# Altium schematic symbol library CAD_Symbols.SchLib: 35 symbols
Pins are listed as number, name and electrical type; pins without a type are passive.

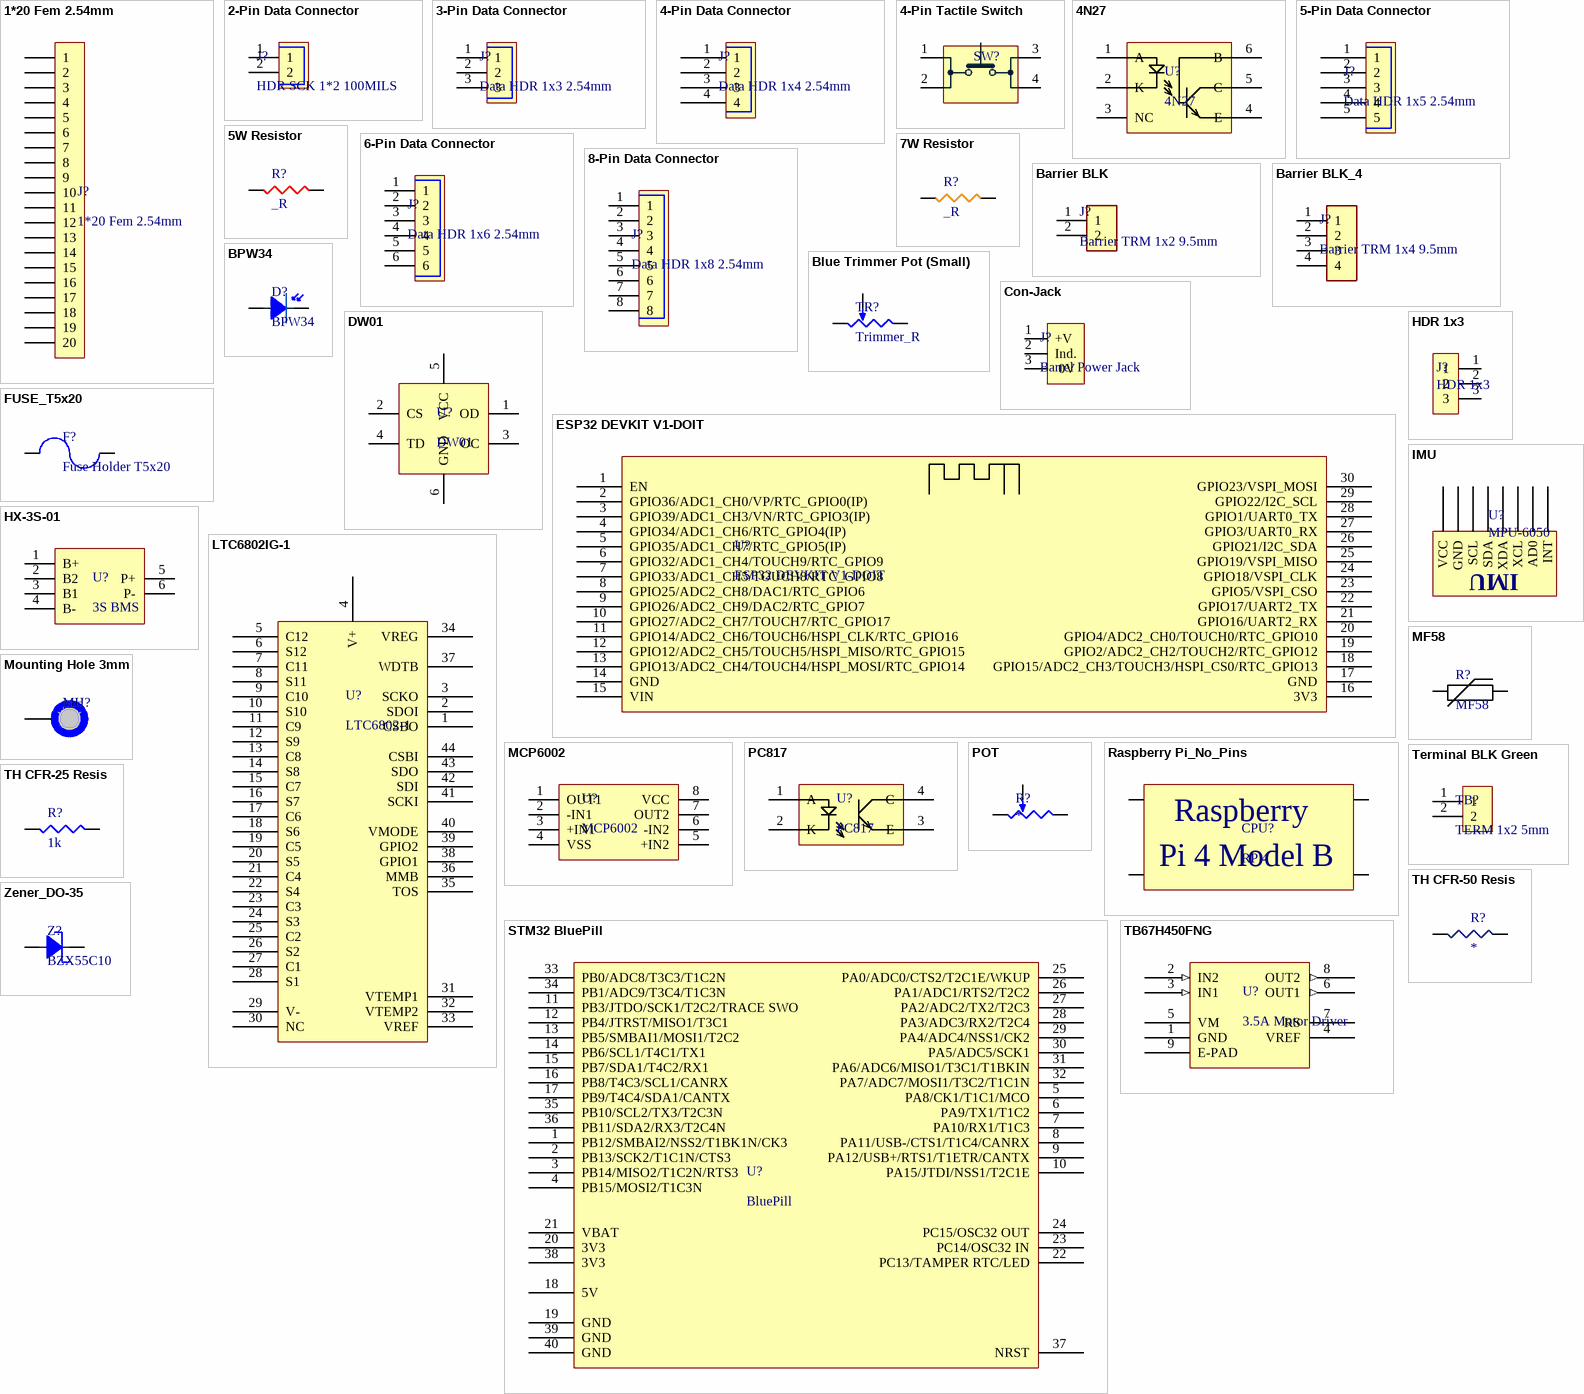
[diagram p0: symbols 1*20 Fem 2.54mm to Zener_DO-35]

## 1*20 Fem 2.54mm
designator J?
footprint 20*1 FEM 2.54mm
pins: 1, 2, 3, 4, 5, 6, 7, 8, 9, 10, 11, 12, 13, 14, 15, 16, 17, 18, 19, 20

## 2-Pin Data Connector
designator J?, comment HDR SCK 1*2 100MILS
Conn Shrouded Header HDR 2 POS 2.54mm Solder ST Thru-Hole; Manufacturer 1: TE Connectivity; Manufacturer Part Number 1: 2-644861-2; Underplate Material: Nickel; Number of Contacts: 2; Connector Type: Plug,Header,Pin; Voltage Rating: 250V; Mating Alignment: Yes (With); PCB Mount Retention: Without; PCB Mounting Orientation: Vertical; Gender: Male; Current Rating: 5A; Contact Resistance: 6mR; Contact Retention: No (Without); Connector System: Wire-to-Board; Contact Style: Straight; Contact Post Length: 3.56mm; Plating Thickness: 6.3um; PCB Thickness: 0.063inch; Approvals: CSA; Supplier 1: Digi-Key; Stock 1: 3206; Pricing 1: 1=0.41000, 10=0.39200, 100=0.27420, 500=0.23506, 1000=0.19588, 5000=0.16790, 10000=0.15670 (USD); RoHS: Yes; Mount: Through Hole; Housing Color: Black; Contact Plating: Tin,Matte; Contact Material: Copper Alloy; Housing Material: Polyester; Color: Black; Contact Shape: Square; Min Operating Temperature: -67°C; Max Operating Temperature: 221°C; Termination: Solder; Number of Rows: 1; Number of Positions: 2; Package Quantity: 500; Packaging: Bag; Contact Gender: Male; Orientation: Straight; Fastening Type: Friction; Max Voltage Rating (AC): 250V; Shrouded: Yes (With); Voltage Rating (AC): 250V; Mating Retention: Yes (With); PCB Mount Alignment: No (Without); Sealable: No (Without); Contact Current Rating: 5A; Strain Relief: No (Without); Backwall/Post Interruptions: No (Without); Length: 7.21mm; Height: 10.41mm; Pitch: 2.54mm; Contact Mating Length: 5.1mm; Depth: 7.95mm; Tail Length: 3.56mm; Radiation Hardening: No; Flammability Rating: UL94 V-0; ELV: Compliant; Lead Free: Lead Free; REACH SVHC: Unknown; ComponentLink1URL: https://datasheet.ciiva.com/16303/eng-ds-82056-mta-0608-16303634.pdf?src-supplier=Future+Electronics; ComponentLink1Description: https://datasheet.ciiva.com/16303/eng-ds-82056-mta-0608-16303634.pdf?src-supplier=Future+Electronics; ComponentLink2URL: https://datasheet.ciiva.com/30111/8852eng-ds-82056-mta-0608-30111398.pdf?src-supplier=Onlinecomponents.com; ComponentLink2Description: https://datasheet.ciiva.com/30111/8852eng-ds-82056-mta-0608-30111398.pdf?src-supplier=Onlinecomponents.com; ComponentLink3URL: https://datasheet.ciiva.com/709/eng-cd-644861-n-basefilename-709739.pdf?src-supplier=Digi-Key; ComponentLink3Description: https://datasheet.ciiva.com/709/eng-cd-644861-n-basefilename-709739.pdf?src-supplier=Digi-Key; ComponentLink4URL: https://datasheet.ciiva.com/3118/eng-ds-82056-mta-0608-3118126.pdf?src-supplier=Avnet; ComponentLink4Description: https://datasheet.ciiva.com/3118/eng-ds-82056-mta-0608-3118126.pdf?src-supplier=Avnet; Supplier Part Number 1: A30931-ND
footprint DHDR 1*2 2,54MM
pins: 1, 2

## 3-Pin Data Connector
designator J?, comment Data HDR 1x3 2.54mm
03P MTA100 SHRD HDR,W/O PEG SN; Manufacturer 1: TE Connectivity; Manufacturer Part Number 1: 2-644861-3; Underplate Material: Nickel; Number of Contacts: 3; Voltage Rating: 250V; Mating Alignment: Yes (With); PCB Mount Retention: Without; PCB Mounting Orientation: Vertical; Connector Type: Plug,Header,Pin; Contact Resistance: 6mR; Current Rating: 5A; Gender: Male; Connector System: Wire-to-Board; Contact Retention: No (Without); Contact Style: Straight; Contact Post Length: 3.56mm; Plating Thickness: 6.3um; PCB Thickness: 0.063inch; Approvals: CSA; Supplier 1: Digi-Key; Stock 1: 12064; Pricing 1: 1=0.51000, 10=0.48000, 100=0.36770, 500=0.31978, 1000=0.26382, 5000=0.23184, 10000=0.21585 (USD); RoHS: Yes; Mount: Through Hole; Color: Black; Contact Plating: Tin,Matte; Contact Material: Copper Alloy; Housing Material: Polyester; Housing Color: Black; Contact Shape: Square; Min Operating Temperature: -67°C; Max Operating Temperature: 221°C; Termination: Solder; Number of Rows: 1; Number of Positions: 3; Package Quantity: 500; Fastening Type: Friction; Packaging: Bag; Contact Gender: Male; Orientation: Straight; Max Voltage Rating (AC): 250V; Voltage Rating (AC): 250V; Shrouded: Yes (With); Mating Retention: Yes (With); PCB Mount Alignment: No (Without); Sealable: No (Without); Contact Current Rating: 5A; Backwall/Post Interruptions: No (Without); Strain Relief: No (Without); Length: 9.75mm; Height: 10.41mm; Pitch: 2.54mm; Contact Mating Length: 5.1mm; Depth: 7.95mm; Tail Length: 3.56mm; Radiation Hardening: No; Flammability Rating: UL94 V-0; ELV: Compliant; Lead Free: Lead Free; REACH SVHC: Unknown; ComponentLink1URL: https://datasheet.ciiva.com/709/eng-cd-644861-n-basefilename-709776.pdf?src-supplier=Digi-Key; ComponentLink1Description: https://datasheet.ciiva.com/709/eng-cd-644861-n-basefilename-709776.pdf?src-supplier=Digi-Key; ComponentLink2URL: https://datasheet.ciiva.com/19463/911331-19463444.pdf?src-supplier=Jameco; ComponentLink2Description: https://datasheet.ciiva.com/19463/911331-19463444.pdf?src-supplier=Jameco; ComponentLink3URL: https://datasheet.ciiva.com/30493/0900766b80f915a0-30493286.pdf?src-supplier=RSComponents; ComponentLink3Description: https://datasheet.ciiva.com/30493/0900766b80f915a0-30493286.pdf?src-supplier=RSComponents; ComponentLink4URL: https://datasheet.ciiva.com/16684/eng-ds-82056-mta-0608-16684920.pdf?src-supplier=Avnet+Europe; ComponentLink4Description: https://datasheet.ciiva.com/16684/eng-ds-82056-mta-0608-16684920.pdf?src-supplier=Avnet+Europe; ComponentLink5URL: https://datasheet.ciiva.com/30195/8852eng-ds-82056-mta-0608-30195592.pdf?src-supplier=Onlinecomponents.com; ComponentLink5Description: https://datasheet.ciiva.com/30195/8852eng-ds-82056-mta-0608-30195592.pdf?src-supplier=Onlinecomponents.com; ComponentLink6URL: https://datasheet.ciiva.com/16374/2-644861-3-16374442.pdf?src-supplier=Future+Electronics; ComponentLink6Description: https://datasheet.ciiva.com/16374/2-644861-3-16374442.pdf?src-supplier=Future+Electronics
footprint DHDR_1x3_2.54mm
pins: 1, 2, 3

## 4-Pin Data Connector
designator J?, comment Data HDR 1x4 2.54mm
MTA-100 Series, 2.54mm Pitch 4 Way 1 RowStraight PCB Header, Solder Term, 5A; Manufacturer 1: TE Connectivity; Manufacturer Part Number 1: 2-644861-4; Underplate Material: Nickel; Number of Contacts: 4; Connector Type: Plug,Header,Pin; Voltage Rating: 250V; Gender: Male; Shrouded: Yes (With); PCB Mount Retention: Without; PCB Mounting Orientation: Vertical; Contact Resistance: 6mR; Backwall/Post Interruptions: No (Without); Connector System: Wire-to-Board; Contact Post Length: 3.56mm; Plating Thickness: 6.35um; PCB Thickness: 0.063inch; Approvals: CSA; Supplier 1: Digi-Key; Stock 1: 18767; Pricing 1: 1=0.79000, 10=0.74100, 100=0.56790, 500=0.49380, 1000=0.40739, 5000=0.35801, 10000=0.33332 (USD); RoHS: Yes; Mount: Through Hole; Housing Color: Black; Color: Black; Contact Material: Copper Alloy; Contact Plating: Tin,Matte; Housing Material: Polyester; Contact Shape: Square; Min Operating Temperature: -67°C; Max Operating Temperature: 221°C; Termination: Solder; Number of Rows: 1; Contact Gender: Male; Number of Positions: 4; Package Quantity: 500; Packaging: Loose Piece; Current Rating: 5A; Voltage Rating (AC): 250V; Mating Alignment: Yes (With); Orientation: Straight; Fastening Type: Friction; Max Voltage Rating (AC): 250V; Contact Current Rating: 5A; Contact Retention: No (Without); Mating Retention: Yes (With); PCB Mount Alignment: No (Without); Sealable: No (Without); Strain Relief: No (Without); Contact Style: Straight; Length: 12.29mm; Height: 10.41mm; Pitch: 2.54mm; Contact Mating Length: 5.1mm; Depth: 7.95mm; Tail Length: 3.56mm; Radiation Hardening: No; Flammability Rating: UL94 V-0; ELV: Compliant; Lead Free: Lead Free; REACH SVHC: Unknown; ComponentLink1URL: https://datasheet.ciiva.com/7800/1651878-7800290.pdf?src-supplier=Element14; ComponentLink1Description: https://datasheet.ciiva.com/7800/1651878-7800290.pdf?src-supplier=Element14; ComponentLink2URL: https://datasheet.ciiva.com/15175/getdatasheetpartid-36841-15175492.pdf?src-supplier=Verical; ComponentLink2Description: https://datasheet.ciiva.com/15175/getdatasheetpartid-36841-15175492.pdf?src-supplier=Verical; ComponentLink3URL: https://datasheet.ciiva.com/11759/0900766b80f915a0-11759930.pdf?src-supplier=RSComponents; ComponentLink3Description: https://datasheet.ciiva.com/11759/0900766b80f915a0-11759930.pdf?src-supplier=RSComponents; ComponentLink4URL: https://datasheet.ciiva.com/714/eng-cd-644861-n-basefilename-714593.pdf?src-supplier=Digi-Key; ComponentLink4Description: https://datasheet.ciiva.com/714/eng-cd-644861-n-basefilename-714593.pdf?src-supplier=Digi-Key; ComponentLink5URL: https://datasheet.ciiva.com/16684/eng-ds-82056-mta-0608-16684709.pdf?src-supplier=Avnet+Europe; ComponentLink5Description: https://datasheet.ciiva.com/16684/eng-ds-82056-mta-0608-16684709.pdf?src-supplier=Avnet+Europe; ComponentLink6URL: https://datasheet.ciiva.com/16497/eng-ds-82056-mta-0608-16497871.pdf?src-supplier=Avnet+Asia; ComponentLink6Description: https://datasheet.ciiva.com/16497/eng-ds-82056-mta-0608-16497871.pdf?src-supplier=Avnet+Asia; Supplier Part Number 1: A30933-ND
footprint DHDR_1x4_2.54mm
pins: 1, 2, 3, 4

## 4-Pin Tactile Switch
designator SW?, comment 1825910-6  (value not drawn)
SWITCH TACTILE SPST-NO 0.05A 24V; Manufacturer 1: TE Connectivity Alcoswitch; Actuator Material: PBT; Mechanical Life: 100000Cycles; Operating Force: 160gf; Throw Configuration: SPST; Illumination Type: Non-Illuminated,Illuminated; Parameter Name 1: Loose Piece; Switch Travel: 0.25mm; Switch Function: Off-Mom; Contact Current Rating: 50mA; Actuator Type: Standard; Contact Resistance: 100mR; Actuator Length: 0.055inch; Supplier 1: Digi-Key; Manufacturer Part Number 1: 1825910-6; Stock 1: 115702; Pricing 1: 1=0.10000, 10=0.10100, 25=0.09560, 100=0.08700, 250=0.08180, 500=0.07484, 1000=0.06265, 5000=0.05743, 10000=0.05395 (USD); RoHS: Yes; Mount: Through Hole; Contact Material: Copper Alloy; Contact Plating: Silver; Min Operating Temperature: -35°C; Max Operating Temperature: 85°C; Termination: PC Pins; Package Quantity: 750; Orientation: Straight; Max Voltage Rating (DC): 24V; Electrical Life: 100000Cycles; Max Current Rating: 50mA; Type: Switch; Length: 5.99mm; REACH SVHC: Unknown; ELV: Compliant; Lead Free: Lead Free; ComponentLink1URL: https://datasheet.ciiva.com/30199/1825910-6rqpn1825910-6-30199520.pdf?src-supplier=Onlinecomponents.com; ComponentLink1Description: https://datasheet.ciiva.com/30199/1825910-6rqpn1825910-6-30199520.pdf?src-supplier=Onlinecomponents.com; ComponentLink2URL: https://datasheet.ciiva.com/15184/getdatasheetpartid-395915-15184509.pdf?src-supplier=Verical; ComponentLink2Description: https://datasheet.ciiva.com/15184/getdatasheetpartid-395915-15184509.pdf?src-supplier=Verical; Supplier Part Number 1: 450-1650-ND
footprint 4-Pin Tactile Switch
pins: 1, 2, 3, 4

## 4N27
designator U?
4N27 General Purpose Phototransistor Optocoupler
footprint DIP6
pins: 1 A, 2 K, 3 NC, 4 E, 5 C, 6 B

## 5-Pin Data Connector
designator J?, comment Data HDR 1x5 2.54mm
TE CONNECTIVITY / AMP         2-644861-5            Wire-To-Board Connector, MTA-100 Series, Through Hole, Header, 5 Contacts, 2.54 mm; Underplate Material: Nickel; Connector Type: Plug,Header,Pin; Number of Positions: 5; Gender: Male; Mating Alignment: Yes (With); PCB Mount Retention: Without; PCB Mounting Orientation: Vertical; Contact Resistance: 6mR; Max Voltage Rating (AC): 250V; Current Rating: 5A; Strain Relief: No (Without); Contact Style: Straight; Contact Post Length: 3.56mm; PCB Thickness: 0.063inch; Plating Thickness: 6.3um; Approvals: CSA; Supplier 1: Digi-Key; Manufacturer 1: TE Connectivity; Manufacturer Part Number 1: 2-644861-5; Stock 1: 995; Pricing 1: 1=0.88000, 10=0.77100, 100=0.66540, 500=0.54444, 1000=0.48395, 5000=0.42346, 10000=0.40229 (USD); RoHS: Yes; Mount: Through Hole; Housing Color: Black; Housing Material: Polyester; Contact Material: Copper Alloy; Contact Plating: Tin,Matte; Color: Black; Contact Shape: Square; Min Operating Temperature: -67°C; Max Operating Temperature: 221°C; Termination: Solder; Number of Contacts: 5; Number of Rows: 1; Package Quantity: 500; Packaging: Bag; Orientation: Straight; Contact Gender: Male; Fastening Type: Friction; Voltage Rating: 250V; Voltage Rating (AC): 250V; Shrouded: Yes (With); Contact Current Rating: 5A; Backwall/Post Interruptions: No (Without); Contact Retention: No (Without); Mating Retention: Yes (With); PCB Mount Alignment: No (Without); Connector System: Wire-to-Board; Sealable: No (Without); Length: 0.584inch; Height: 10.41mm; Pitch: 2.54mm; Contact Mating Length: 5.1mm; Depth: 7.95mm; Tail Length: 3.56mm; Radiation Hardening: No; Flammability Rating: UL94 V-0; ELV: Compliant; Lead Free: Lead Free; REACH SVHC: No SVHC; ComponentLink1URL: https://datasheet.ciiva.com/11759/0900766b80f915a1-11759928.pdf?src-supplier=RSComponents; ComponentLink1Description: https://datasheet.ciiva.com/11759/0900766b80f915a1-11759928.pdf?src-supplier=RSComponents; ComponentLink2URL: https://datasheet.ciiva.com/712/eng-cd-644861-n-basefilename-712852.pdf?src-supplier=Digi-Key; ComponentLink2Description: https://datasheet.ciiva.com/712/eng-cd-644861-n-basefilename-712852.pdf?src-supplier=Digi-Key; ComponentLink3URL: https://datasheet.ciiva.com/9478/eng-ds-82056-mta-0608-9478361.pdf?src-supplier=Avnet; ComponentLink3Description: https://datasheet.ciiva.com/9478/eng-ds-82056-mta-0608-9478361.pdf?src-supplier=Avnet; ComponentLink4URL: https://datasheet.ciiva.com/30161/8852eng-ds-82056-mta-0608-30161999.pdf?src-supplier=Onlinecomponents.com; ComponentLink4Description: https://datasheet.ciiva.com/30161/8852eng-ds-82056-mta-0608-30161999.pdf?src-supplier=Onlinecomponents.com; Supplier Part Number 1: A30934-ND
footprint DHDR_1x5_2.54mm
pins: 1, 2, 3, 4, 5

## 5W Resistor
designator R?, comment _R
footprint 5WATT_RESISTOR
pins: 1, 2

## 6-Pin Data Connector
designator J?, comment Data HDR 1x6 2.54mm
CONN HEADER VERT 6POS .100 TIN; Manufacturer 1: TE Connectivity; Manufacturer Part Number 1: 2-644861-6; Underplate Material: Nickel; Number of Contacts: 6; Connector Type: Plug,Header,Pin; Contact Resistance: 6mR; Mating Alignment: Yes (With); PCB Mount Retention: Without; PCB Mounting Orientation: Vertical; Parameter Name 1: Box; Voltage Rating: 250V; Current Rating: 5A; Backwall/Post Interruptions: No (Without); Connector System: Wire-to-Board; Plating Thickness: 6.3um; Contact Style: Straight; Contact Post Length: 3.56mm; PCB Thickness: 0.063inch; Approvals: CSA; Supplier 1: Digi-Key; Stock 1: 208; Pricing 1: 1=1.04000, 10=0.91900, 100=0.79250, 500=0.64840, 1000=0.57635, 5000=0.50431, 10000=0.47909 (USD); RoHS: Yes; Mount: Through Hole; Housing Material: Polyester; Contact Plating: Tin,Matte; Contact Material: Copper Alloy; Contact Shape: Square; Color: Black; Housing Color: Black; Min Operating Temperature: -67°C; Max Operating Temperature: 221°C; Number of Rows: 1; Termination: Solder; Contact Gender: Male; Package Quantity: 1000; Max Voltage Rating (AC): 250V; Fastening Type: Friction; Orientation: Straight; Number of Positions: 6; Contact Retention: No (Without); Mating Retention: Yes (With); PCB Mount Alignment: No (Without); Sealable: No (Without); Strain Relief: No (Without); Contact Current Rating: 5A; Length: 0.684inch; Height: 10.41mm; Pitch: 2.54mm; Contact Mating Length: 5.1mm; Depth: 7.95mm; Tail Length: 3.56mm; Radiation Hardening: No; Flammability Rating: UL94 V-0; REACH SVHC: Unknown; ComponentLink1URL: https://datasheet.ciiva.com/30493/0900766b80f915a1-30493314.pdf?src-supplier=RSComponents; ComponentLink1Description: https://datasheet.ciiva.com/30493/0900766b80f915a1-30493314.pdf?src-supplier=RSComponents; ComponentLink2URL: https://datasheet.ciiva.com/16303/2-644861-6-16303636.pdf?src-supplier=Future+Electronics; ComponentLink2Description: https://datasheet.ciiva.com/16303/2-644861-6-16303636.pdf?src-supplier=Future+Electronics; ComponentLink3URL: https://datasheet.ciiva.com/16684/eng-ds-82056-mta-0608-16684438.pdf?src-supplier=Avnet+Europe; ComponentLink3Description: https://datasheet.ciiva.com/16684/eng-ds-82056-mta-0608-16684438.pdf?src-supplier=Avnet+Europe; ComponentLink4URL: https://datasheet.ciiva.com/15175/getdatasheetpartid-36761-15175467.pdf?src-supplier=Verical; ComponentLink4Description: https://datasheet.ciiva.com/15175/getdatasheetpartid-36761-15175467.pdf?src-supplier=Verical; ComponentLink5URL: https://datasheet.ciiva.com/714/eng-cd-644861-n-basefilename-714750.pdf?src-supplier=Digi-Key; ComponentLink5Description: https://datasheet.ciiva.com/714/eng-cd-644861-n-basefilename-714750.pdf?src-supplier=Digi-Key; ComponentLink6URL: https://datasheet.ciiva.com/30135/8852eng-ds-82056-mta-0608-30135278.pdf?src-supplier=Onlinecomponents.com; ComponentLink6Description: https://datasheet.ciiva.com/30135/8852eng-ds-82056-mta-0608-30135278.pdf?src-supplier=Onlinecomponents.com; ComponentLink7URL: https://datasheet.ciiva.com/3118/eng-ds-82056-mta-0608-3118127.pdf?src-supplier=Avnet; ComponentLink7Description: https://datasheet.ciiva.com/3118/eng-ds-82056-mta-0608-3118127.pdf?src-supplier=Avnet; Supplier Part Number 1: A30935-ND
footprint DHDR_1x6_2.54mm
pins: 1, 2, 3, 4, 5, 6

## 7W Resistor
designator R?, comment _R
footprint 7WATT_RESISTOR
pins: 1, 2

## 8-Pin Data Connector
designator J?, comment Data HDR 1x8 2.54mm
CONN HEADER VERT 8POS .100 TIN; Manufacturer 1: TE Connectivity; Manufacturer Part Number 1: 2-644861-8; Underplate Material: Nickel; Number of Contacts: 8; Connector Type: Plug,Header,Pin; Mating Alignment: Yes (With); PCB Mount Retention: Without; PCB Mounting Orientation: Vertical; Contact Resistance: 6mR; Max Voltage Rating (AC): 250V; Current Rating: 5A; Gender: Male; Backwall/Post Interruptions: No (Without); Connector System: Wire-to-Board; Contact Style: Straight; Contact Post Length: 3.56mm; Plating Thickness: 6.3um; PCB Thickness: 0.063inch; Approvals: CSA; Supplier 1: Digi-Key; Stock 1: 1996; Pricing 1: 1=0.62000, 10=0.58100, 100=0.44530, 500=0.38726, 1000=0.31949, 5000=0.28076, 10000=0.26140 (USD); RoHS: Yes; Mount: Through Hole; Housing Material: Polyester; Contact Shape: Square; Contact Plating: Tin,Matte; Contact Material: Copper Alloy; Color: Black; Housing Color: Black; Min Operating Temperature: -67°C; Max Operating Temperature: 221°C; Termination: Solder; Number of Rows: 1; Number of Positions: 8; Packaging: Bulk; Contact Gender: Male; Package Quantity: 1000; Voltage Rating: 250V; Fastening Type: Friction; Orientation: Straight; Contact Retention: No (Without); Mating Retention: Yes (With); PCB Mount Alignment: No (Without); Sealable: No (Without); Strain Relief: No (Without); Contact Current Rating: 5A; Length: 22.45mm; Height: 10.41mm; Pitch: 2.54mm; Contact Mating Length: 5.1mm; Depth: 7.95mm; Tail Length: 3.56mm; Radiation Hardening: No; Flammability Rating: UL94 V-0; REACH SVHC: Unknown; ComponentLink1URL: https://datasheet.ciiva.com/16303/2-644861-8-16303640.pdf?src-supplier=Future+Electronics; ComponentLink1Description: https://datasheet.ciiva.com/16303/2-644861-8-16303640.pdf?src-supplier=Future+Electronics; ComponentLink2URL: https://datasheet.ciiva.com/11745/0900766b81026688-11745886.pdf?src-supplier=RSComponents; ComponentLink2Description: https://datasheet.ciiva.com/11745/0900766b81026688-11745886.pdf?src-supplier=RSComponents; ComponentLink3URL: https://datasheet.ciiva.com/709/eng-cd-644861-n-basefilename-709773.pdf?src-supplier=Digi-Key; ComponentLink3Description: https://datasheet.ciiva.com/709/eng-cd-644861-n-basefilename-709773.pdf?src-supplier=Digi-Key; ComponentLink4URL: https://datasheet.ciiva.com/9478/eng-ds-82056-mta-0608-9478367.pdf?src-supplier=Avnet; ComponentLink4Description: https://datasheet.ciiva.com/9478/eng-ds-82056-mta-0608-9478367.pdf?src-supplier=Avnet; ComponentLink5URL: https://datasheet.ciiva.com/16684/eng-ds-82056-mta-0608-16684159.pdf?src-supplier=Avnet+Europe; ComponentLink5Description: https://datasheet.ciiva.com/16684/eng-ds-82056-mta-0608-16684159.pdf?src-supplier=Avnet+Europe; Supplier Part Number 1: A30937-ND
footprint DHDR_1x8_2.54mm
pins: 1, 2, 3, 4, 5, 6, 7, 8

## Barrier BLK
designator J?, comment Barrier TRM 1x2 9.5mm
CONN BARRIER STRIP 2CIRC 0.374"; Manufacturer 1: On-Shore Technology; Manufacturer Part Number 1: OSTYK44102030; Current Rating: 30A; Voltage Rating: 300V; Parameter Name 1: Bulk; Number of Circuits: 2; Wire Gauge (Max): 22AWG; Wire Gauge (Min): 10AWG; Pitch: 0.374inch; Supplier 1: Digi-Key; Stock 1: 3505; Pricing 1: 1=1.22000, 10=0.76100, 25=0.65160, 50=0.58560, 100=0.57340, 250=0.48800, 500=0.46360, 1000=0.41480, 5000=0.32452 (USD); RoHS: Yes; Mount: Through Hole; Color: Black; Insulation Material: Nylon; Min Operating Temperature: -40°C; Max Operating Temperature: 105°C; Number of Rows: 1; Number of Wire Entries: 2; Flammability Rating: UL94 V-0; ComponentLink1URL: https://datasheet.ciiva.com/778/ostyk441xx030-778584.pdf?src-supplier=Digi-Key; ComponentLink1Description: https://datasheet.ciiva.com/778/ostyk441xx030-778584.pdf?src-supplier=Digi-Key; Supplier Part Number 1: ED2971-ND
footprint BARRIER_9.5MM
pins: 1, 2

## Barrier BLK_4
designator J?, comment Barrier TRM 1x4 9.5mm
CONN BARRIER STRIP 4CIRC 0.374"; Manufacturer 1: On-Shore Technology; Manufacturer Part Number 1: OSTYK44102030; Current Rating: 30A; Voltage Rating: 300V; Parameter Name 1: Bulk; Number of Circuits: 2; Wire Gauge (Max): 22AWG; Wire Gauge (Min): 10AWG; Pitch: 0.374inch; Supplier 1: Digi-Key; Stock 1: 3505; Pricing 1: 1=1.22000, 10=0.76100, 25=0.65160, 50=0.58560, 100=0.57340, 250=0.48800, 500=0.46360, 1000=0.41480, 5000=0.32452 (USD); RoHS: Yes; Mount: Through Hole; Color: Black; Insulation Material: Nylon; Min Operating Temperature: -40°C; Max Operating Temperature: 105°C; Number of Rows: 1; Number of Wire Entries: 2; Flammability Rating: UL94 V-0; ComponentLink1URL: https://datasheet.ciiva.com/778/ostyk441xx030-778584.pdf?src-supplier=Digi-Key; ComponentLink1Description: https://datasheet.ciiva.com/778/ostyk441xx030-778584.pdf?src-supplier=Digi-Key; Supplier Part Number 1: ED2971-ND
footprint BARRIER_4_9.5mm
pins: 1, 2, 3, 4

## Blue Trimmer Pot (Small)
designator TR?, comment Trimmer_R
footprint 3296W_TRIMMER
pins: 1, 2, 3

## BPW34
designator D?
PIN photodiode with high speed and high / radiant sensitivity in miniature, flat, top view, clear plastic / package. It is sensitive to visible and near infrared radiation. / BPW34S is packed in tubes, specifications like BPW34.
footprint BPW34
pins: A Anode, K Cathode

## Con-Jack
designator J?, comment Barrel Power Jack
DC-Power Socket 12V 5A 2, 1mm Solder Eyel; Manufacturer 1: Cliff; Manufacturer Part Number 1: FC68148; Parameter Name 1: Bulk; Inside Diameter: 6.3mm; Supplier 1: Conrad; RoHS: Yes; Weight: 0.1lb; Current Rating: 5A; Orientation: Right Angle; Connector Type: Socket; Length: 5inch; Height: 0.25inch; Width: 3inch; ComponentLink1URL: http://www.farnell.com/datasheets/317160.pdf?src-supplier=Farnell; ComponentLink1Description: http://www.farnell.com/datasheets/317160.pdf?src-supplier=Farnell; ComponentLink2URL: http://www.rapidonline.com/pdf/735742_da_en_01.pdf?src-supplier=Rapid+Electronics; ComponentLink2Description: http://www.rapidonline.com/pdf/735742_da_en_01.pdf?src-supplier=Rapid+Electronics; ComponentLink3URL: http://www.produktinfo.conrad.com/datenblaetter/725000-749999/735742-da-01-en-DC_BUCHSE_2_1MM_FC68148.pdf?src-supplier=Conrad; ComponentLink3Description: http://www.produktinfo.conrad.com/datenblaetter/725000-749999/735742-da-01-en-DC_BUCHSE_2_1MM_FC68148.pdf?src-supplier=Conrad; Supplier Part Number 1: 735742
footprint pwr_Jack
pins: 1 +V, 2 Ind., 3  0V

## DW01
designator U?
One Cell Lithium-ion/Polymer Battery Protection IC
footprint SOT23-6
pins: 1 OD, 2 CS, 3 OC, 4 TD, 5 VCC, 6 GND

## ESP32 DEVKIT V1-DOIT
designator U?
footprint ESP32 DEVKIT V1-DOIT
pins: 1 EN, 2 GPIO36/ADC1_CH0/VP/RTC_GPIO0(IP), 3 GPIO39/ADC1_CH3/VN/RTC_GPIO3(IP), 4 GPIO34/ADC1_CH6/RTC_GPIO4(IP), 5 GPIO35/ADC1_CH7/RTC_GPIO5(IP), 6 GPIO32/ADC1_CH4/TOUCH9/RTC_GPIO9, 7 GPIO33/ADC1_CH5/TOUCH8/RTC_GPIO8, 8 GPIO25/ADC2_CH8/DAC1/RTC_GPIO6, 9 GPIO26/ADC2_CH9/DAC2/RTC_GPIO7, 10 GPIO27/ADC2_CH7/TOUCH7/RTC_GPIO17, 11 GPIO14/ADC2_CH6/TOUCH6/HSPI_CLK/RTC_GPIO16, 12 GPIO12/ADC2_CH5/TOUCH5/HSPI_MISO/RTC_GPIO15, 13 GPIO13/ADC2_CH4/TOUCH4/HSPI_MOSI/RTC_GPIO14, 14 GND, 15 VIN, 16 3V3, 17 GND, 18 GPIO15/ADC2_CH3/TOUCH3/HSPI_CS0/RTC_GPIO13, 19 GPIO2/ADC2_CH2/TOUCH2/RTC_GPIO12, 20 GPIO4/ADC2_CH0/TOUCH0/RTC_GPIO10, 21 GPIO16/UART2_RX, 22 GPIO17/UART2_TX, 23 GPIO5/VSPI_CSO, 24 GPIO18/VSPI_CLK, 25 GPIO19/VSPI_MISO, 26 GPIO21/I2C_SDA, 27 GPIO3/UART0_RX, 28 GPIO1/UART0_TX, 29 GPIO22/I2C_SCL, 30 GPIO23/VSPI_MOSI

## FUSE_T5x20
designator F?, comment Fuse Holder T5x20
footprint FUSE
pins: 1, 2

## HDR 1x3
designator J?
1x3 Male Header 2.54 mm pitch
footprint HDR 1x3 2.54mm
pins: 1, 2, 3

## HX-3S-01
designator U?, comment 3S BMS
Lithium Battery Charger Protection Module (BMS) 3S 10A 12V
footprint HX-3S-01
pins: 1 B+, 2 B2, 3 B1, 4 B-, 5 P+, 6 P-

## IMU
designator U?, comment MPU-6050
footprint IMU
pins: AD0, GND, INT, SCL, SDA, VCC, XCL, XDA

## LTC6802IG-1
designator U?, comment LTC6802-1
Battery Stack Monitor Li-Ion Automotive 44-Pin SSOP Tube; Manufacturer: Analog Devices / Linear Technology; Manufacturer Part Number: LTC6802IG-1#PBF; Supplier 1: Arrow Electronics; RoHS: Yes; Category: Battery Management; Stock 1: 59; Pricing 1: 1=20.44 (USD); ComponentLink1URL: https://datasheet.ciiva.com/25627/0900766b810edb72-25627720.pdf?src-supplier=Rs; ComponentLink1Description: https://datasheet.ciiva.com/25627/0900766b810edb72-25627720.pdf?src-supplier=Rs; ComponentLink2URL: https://datasheet.ciiva.com/1137/1714134-1137505.pdf?src-supplier=Element14; ComponentLink2Description: https://datasheet.ciiva.com/1137/1714134-1137505.pdf?src-supplier=Element14; ComponentLink3URL: https://datasheet.ciiva.com/1932/26880-1932133.pdf?src-supplier=Digikey; ComponentLink3Description: https://datasheet.ciiva.com/1932/26880-1932133.pdf?src-supplier=Digikey; ComponentLink4URL: https://datasheet.ciiva.com/15114/getdatasheetpartid-365066-15114664.pdf?src-supplier=Verical; ComponentLink4Description: https://datasheet.ciiva.com/15114/getdatasheetpartid-365066-15114664.pdf?src-supplier=Verical; ComponentLink5URL: https://datasheet.ciiva.com/1140/1714134-1140082.pdf?src-supplier=Farnell; ComponentLink5Description: https://datasheet.ciiva.com/1140/1714134-1140082.pdf?src-supplier=Farnell; Supplier Part Number 1: LTC6802IG-1#PBF
footprint TSSOP44
pins: 1 CSBO, 2 SDOI, 3 SCKO, 4 V+, 5 C12, 6 S12, 7 C11, 8 S11, 9 C10, 10 S10, 11 C9, 12 S9, 13 C8, 14 S8, 15 C7, 16 S7, 17 C6, 18 S6, 19 C5, 20 S5, 21 C4, 22 S4, 23 C3, 24 S3, 25 C2, 26 S2, 27 C1, 28 S1, 29 V-, 30 NC, 31 VTEMP1, 32 VTEMP2, 33 VREF, 34 VREG, 35 TOS, 36 MMB, 37 WDTB, 38 GPIO1, 39 GPIO2, 40 VMODE, 41 SCKI, 42 SDI, 43 SDO, 44 CSBI

## MCP6002
designator U?
Dual General Purpose Rail-to-Rail Op-Amp, 1.8~6V Operating Range
footprint DIP8
pins: 1 OUT1, 2 -IN1, 3 +IN1, 4 VSS, 5 +IN2, 6 -IN2, 7 OUT2, 8 VCC

## MF58
designator R?
NTC 100K THERMISTOR MF58
footprint NTC 3mm
pins: 1, 2

## Mounting Hole 3mm
designator MH?, comment MH_7.4MMC_3.2MMD  (value not drawn)  (no BOM)
Mounting Hole, 7.4mm diameter, 3.2mm drill.
footprint MH_7.4MMC_3.2MMD
pins: 1

## PC817
designator U?
PC817 Photocoupler
footprint DIP4
pins: 1 A, 2 K, 3 E, 4 C

## POT
designator R?
footprint POT
footprint POT 3386P
pins: 1, 2, 3

## Raspberry Pi_No_Pins
designator CPU?, comment RP 4
footprint RP4-B
pins: 1, 2, 3, 4
text: Raspberry; Pi 4 Model B

## STM32 BluePill
designator U?, comment BluePill
footprint BluePill (STM32_BluePill)
pins: 1 PB12/SMBAI2/NSS2/T1BK1N/CK3, 2 PB13/SCK2/T1C1N/CTS3, 3 PB14/MISO2/T1C2N/RTS3, 4 PB15/MOSI2/T1C3N, 5 PA8/CK1/T1C1/MCO, 6 PA9/TX1/T1C2, 7 PA10/RX1/T1C3, 8 PA11/USB-/CTS1/T1C4/CANRX, 9 PA12/USB+/RTS1/T1ETR/CANTX, 10 PA15/JTDI/NSS1/T2C1E, 11 PB3/JTDO/SCK1/T2C2/TRACE SWO, 12 PB4/JTRST/MISO1/T3C1, 13 PB5/SMBAI1/MOSI1/T2C2, 14 PB6/SCL1/T4C1/TX1, 15 PB7/SDA1/T4C2/RX1, 16 PB8/T4C3/SCL1/CANRX, 17 PB9/T4C4/SDA1/CANTX, 18 5V, 19 GND, 20 3V3, 21 VBAT, 22 PC13/TAMPER RTC/LED, 23 PC14/OSC32 IN, 24 PC15/OSC32 OUT, 25 PA0/ADC0/CTS2/T2C1E/WKUP, 26 PA1/ADC1/RTS2/T2C2, 27 PA2/ADC2/TX2/T2C3, 28 PA3/ADC3/RX2/T2C4, 29 PA4/ADC4/NSS1/CK2, 30 PA5/ADC5/SCK1, 31 PA6/ADC6/MISO1/T3C1/T1BKIN, 32 PA7/ADC7/MOSI1/T3C2/T1C1N, 33 PB0/ADC8/T3C3/T1C2N, 34 PB1/ADC9/T3C4/T1C3N, 35 PB10/SCL2/TX3/T2C3N, 36 PB11/SDA2/RX3/T2C4N, 37 NRST, 38 3V3, 39 GND, 40 GND

## TB67H450FNG
designator U?, comment 3.5A Motor Driver
footprint HSOP8
pins: 1 GND (power), 2 IN2 (in), 3 IN1 (in), 4 VREF, 5 VM (power), 6 OUT1 (out), 7 RS, 8 OUT2 (out), 9 E-PAD (power)

## Terminal BLK Green
designator TB?, comment TERM 1x2 5mm
PHOENIX CONTACT         MKDSN 1,5/ 2             Wire-To-Board Terminal Block, 5 mm, 2 Ways, 26 AWG, 16 AWG, 1.5 mm, Screw; Manufacturer Part Number 1: 1729018; Parameter Name 1: Bulk; Number of Positions: 2; Current Rating: 13.5A; Number of Levels: 1; Current: 10A; Gender: Male; Voltage Rating: 400V; Voltage: 300V; Max Supply Voltage: 250V; Wire Gauge (Max): 26AWG; Stripping Length: 6mm; Approvals: UL,CSA,cULus,CB; Supplier 1: Mouser; Manufacturer 1: Phoenix Contact; Stock 1: 6371; Pricing 1: 1=1.10000, 10=1.05000, 50=1.01000, 100=0.97400, 250=0.91000, 500=0.83800 (USD); RoHS: Yes; Mount: Through Hole; Number of Pins: 2; Weight: 0.06949oz; Color: Green; Material: Polyamide; Housing Material: Polyamide; Housing Color: Green; Contact Material: Tin; Insulation Material: Nylon; Package Quantity: 50; Termination: Screw; Number of Positions Per Level: 2; Number of Contacts: 2; Number of Circuits: 2; Connector Type: Screw; Orientation: Straight; Number of Rows: 1; Max Current Rating: 13.5A; Number of Poles: 2; Length: 8.1mm; Height: 13.5mm; Pitch: 5mm; Wire Gauge (Min): 26AWG; Depth: 8.1mm; Width: 13.5mm; Wire/Cable Gauge: 26AWG; Radiation Hardening: No; REACH SVHC: Unknown; Flammability Rating: UL94 V-0; Lead Free: Lead Free; ComponentLink1URL: https://datasheet.ciiva.com/16071/1729018-16071814.pdf?src-supplier=Onlinecomponents.com; ComponentLink1Description: https://datasheet.ciiva.com/16071/1729018-16071814.pdf?src-supplier=Onlinecomponents.com; ComponentLink2URL: https://datasheet.ciiva.com/832/1729018-832055.pdf?src-supplier=Digi-Key; ComponentLink2Description: https://datasheet.ciiva.com/832/1729018-832055.pdf?src-supplier=Digi-Key; ComponentLink3URL: https://datasheet.ciiva.com/15169/getdatasheetpartid-177860-15169643.pdf?src-supplier=Verical; ComponentLink3Description: https://datasheet.ciiva.com/15169/getdatasheetpartid-177860-15169643.pdf?src-supplier=Verical; ComponentLink4URL: https://datasheet.ciiva.com/14607/70054375-14607356.pdf?src-supplier=Allied+Electronics; ComponentLink4Description: https://datasheet.ciiva.com/14607/70054375-14607356.pdf?src-supplier=Allied+Electronics; ComponentLink5URL: https://datasheet.ciiva.com/33105/1729018-33105978.pdf?src-supplier=Today+Components; ComponentLink5Description: https://datasheet.ciiva.com/33105/1729018-33105978.pdf?src-supplier=Today+Components; Supplier Part Number 1: 651-1729018
footprint Terminal_5mm
pins: 1, 2

## TH CFR-25 Resis
designator R?, comment 1k
CFR Series 0.25 W 1 KOhm ±5 % -350 to 500 ppm/°C Carbon Film Resistor; Manufacturer 1: Yageo; Manufacturer Part Number 1: CFR-25JB-52-1K; Tolerance: 5%; Resistance: 1kR; Max Power Dissipation: 250mW; Parameter Name 1: Bulk; Supplier 1: Digi-Key; Stock 1: 194074; Pricing 1: 1=0.10000, 25=0.04680, 50=0.03640, 100=0.02600, 250=0.02028, 500=0.01612, 750=0.01379, 1000=0.01144, 2000=0.00988 (USD); RoHS: Yes; Case/Package: Axial; Min Operating Temperature: -55°C; Max Operating Temperature: 155°C; Temperature Coefficient: 500ppm/°C; Resistor Type: Carbon Film; Number of Terminations: 2; Package Quantity: 200; Power Rating: 250mW; Length: 0.248inch; Lead Free: Lead Free; ComponentLink1URL: http://www.yageo.com/NewPortal/yageodocoutput?fileName=/pdf/throughhole/Yageo_LR_CFR_2013.pdf&src-supplier=Digi-Key; ComponentLink1Description: http://www.yageo.com/NewPortal/yageodocoutput?fileName=/pdf/throughhole/Yageo_LR_CFR_2013.pdf&src-supplier=Digi-Key; ComponentLink2URL: http://www.yageo.com/documents/recent/General%20Type_CFR.pdf?src-supplier=Future+Electronics; ComponentLink2Description: http://www.yageo.com/documents/recent/General%20Type_CFR.pdf?src-supplier=Future+Electronics; Supplier Part Number 1: 1.0KQBK-ND
footprint R_THT_CFR-25
pins: 1, 2

## TH CFR-50 Resis
designator R?
General Type Carbon Film Resistor 330Ohm 1/2W 5% Axial Bulk; Manufacturer 1: Yageo; Manufacturer Part Number 1: CFR-50JB-52-330R; Temperature Coefficient: 500ppm/°C; Resistance: 330R; Max Power Dissipation: 500mW; Supplier 1: Digi-Key; Stock 1: 1637; Pricing 1: 1=0.11000, 10=0.09800, 25=0.06800, 50=0.05300, 100=0.03780, 250=0.02948, 500=0.02344, 1000=0.01663, 5000=0.01285 (USD); RoHS: Yes; Case/Package: Axial; Min Operating Temperature: -55°C; Max Operating Temperature: 155°C; Resistor Type: Carbon Film; Number of Terminations: 2; Package Quantity: 200; Packaging: Bulk; Tolerance: 5%; Length: 0.354inch; ComponentLink1URL: http://www.yageo.com/documents/recent/Yageo%20LR_CFR_2013.pdf?src-supplier=Digi-Key; ComponentLink1Description: http://www.yageo.com/documents/recent/Yageo%20LR_CFR_2013.pdf?src-supplier=Digi-Key
footprint R_THT_CFR-50
pins: 1, 2

## Zener_DO-35
designator Z?, comment BZX55C10
TH Zener Diode DO-35
footprint DO-35
pins: A Anode, K Cathode